# EAGLE library part AD8232 (library AD8232)
Check availability <https://pricing.snapeda.com/parts/AD8232/Analog%20Devices%2C%20Inc./view-part?ref=eda>
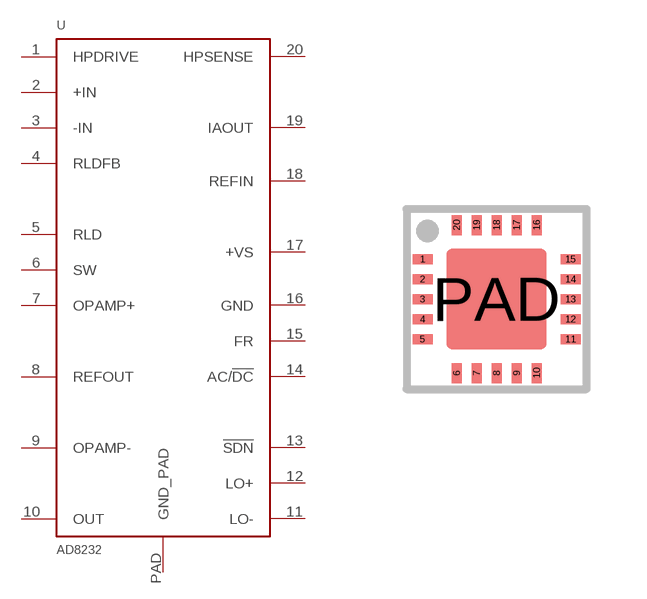
[diagram p0: symbol with the pads of LFCSP_20; footprint LFCSP_20]

Designator prefix -

## AD8232 (Availability: In Stock; Description: AD8232 Analog Front End Evaluation Board; MF: Analog Devices, Inc.; MP: AD8232; Package: None; Price: None; Purchase-URL: https://pricing.snapeda.com/search/part/AD8232/?ref=eda)  [LFCSP_20]
1  HPDRIVE
2  +IN
3  -IN
4  RLDFB
5  RLD
6  SW
7  OPAMP+
8  REFOUT
9  OPAMP-
10  OUT
11  LO-
12  LO+
13  !SDN
14  AC/!DC
15  FR
16  GND
17  +VS
18  REFIN
19  IAOUT
20  HPSENSE
PAD  GND_PAD

## Footprint LFCSP_20 (pad centres in mm)
smd 0.5 x 0.25: 1 -1.85,1; 2 -1.85,0.5; 3 -1.85,0; 4 -1.85,-0.5; 5 -1.85,-1; 11 1.85,-1; 12 1.85,-0.5; 13 1.85,0; 14 1.85,0.5; 15 1.85,1
smd 0.25 x 0.5: 6 -1,-1.85; 7 -0.5,-1.85; 8 0,-1.85; 9 0.5,-1.85; 10 1,-1.85; 16 1,1.85; 17 0.5,1.85; 18 0,1.85; 19 -0.5,1.85; 20 -1,1.85
smd 2.5 x 2.5: PAD 0,0